# Altium schematic symbol library common.SchLib: 23 symbols
Pins are listed as number, name and electrical type; pins without a type are passive.

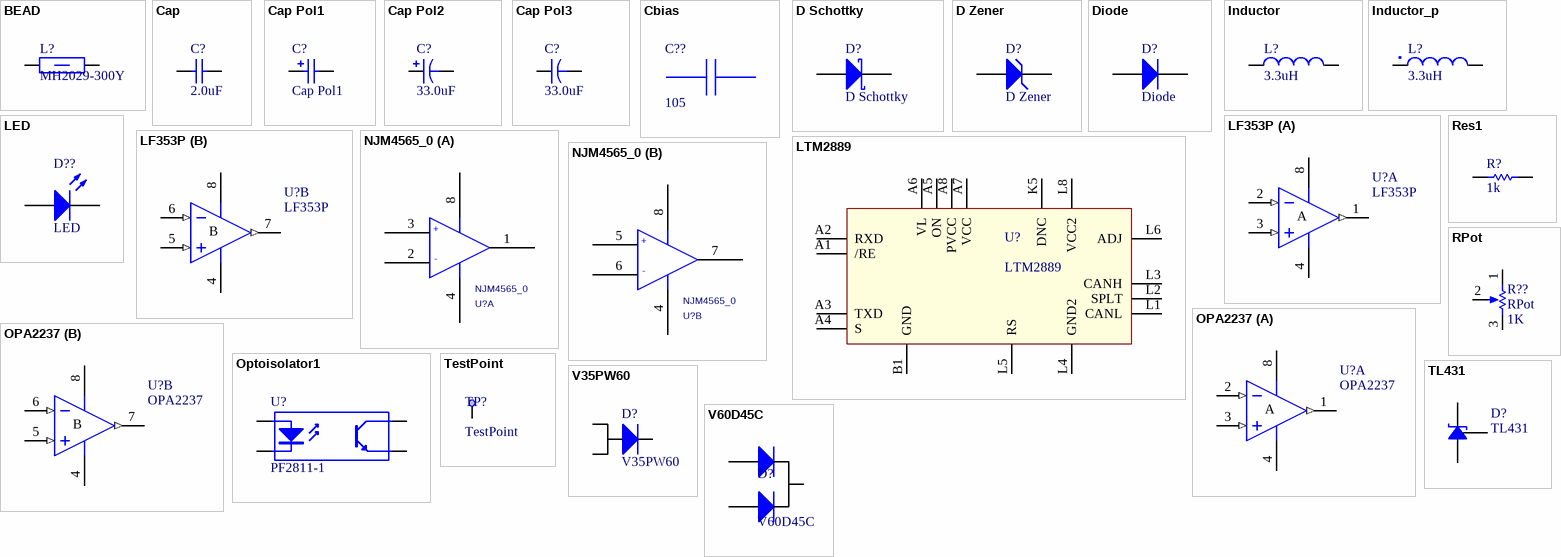
[diagram p0: symbols BEAD to V60D45C]

## BEAD
designator L?, comment MH2029-300Y
Inductor; Manufacturer: Bourns; Par Number: MH2029-300Y
footprint IND2012X05N (Chip Inductor, 2-Leads, Body 2.00x1.20mm, IPC Medium Density)
footprint SF-2923UC (SF-2923UC 5.8x7.3mm Fuse)
pins: 1, 2

## Cap
designator C?, comment 2.0uF
Capacitor; Value: 100pF; Published: 8-Jun-2000; LatestRevisionDate: 17-Jul-2002; LatestRevisionNote: Re-released for DXP Platform.; PackageReference: RAD-0.3; Publisher: Altium Limited; PackageDescription: Radial Cap, Thru-Hole; 2 Leads; 0.3 in Pin Spacing; Part Number: *; Manufacturer: *
footprint RAD-0.3 (Radial Cap, Thru-Hole; 2 Leads; 0.3 in Pin Spacing)
simulation model CAP (Capacitor)
signal-integrity model Cap
footprint CAPC1608X05N (Chip Capacitor, 2-Leads, Body 1.60x0.75mm, IPC Medium Density)
footprint CAPC2012X05N (Chip Capacitor, 2-Leads, Body 2.00x1.20mm, IPC Medium Density)
footprint LDEIH4100KA5N00 (EIA6054-13.7x15.5mmm)
pins: 1, 2

## Cap Pol1
designator C?
Polarized Capacitor (Radial); Value: 100pF; Published: 8-Jun-2000; LatestRevisionDate: 17-Jul-2002; LatestRevisionNote: Re-released for DXP Platform.; PackageReference: RB7.6-15; Publisher: Altium Limited; PackageDescription: Polarized Capacitor (Radial); 2 Leads; Part Number: *; Manufacturer: *
simulation model CAP (Capacitor)
signal-integrity model Cap Pol
footprint CAPMP3216X18N (Molded Capacitor, 2-Leads, Body 3.20x1.60mm, IPC Medium Density)
footprint CAPMP3528X18N (Molded Capacitor, 2-Leads, Body 3.50x2.80mm, IPC Medium Density)
footprint CAPMP6032X25N (Molded Capacitor, 2-Leads, Body 6.00x3.20mm, IPC Medium Density)
pins: 1, 2
1 alternate drawing of the same symbol

## Cap Pol2
designator C?, comment 33.0uF
Polarized Capacitor (Axial); Value: 100pF; Published: 8-Jun-2000; LatestRevisionDate: 17-Jul-2002; LatestRevisionNote: Re-released for DXP Platform.; PackageReference: POLAR0.8; Publisher: Altium Limited; PackageDescription: Polarized Capacitor; 2 Leads; Part Number: *; Manufacturer: *
simulation model CAP (Capacitor)
signal-integrity model Cap Pol
footprint CAPAE9083X100M (Aluminum Electrolytic Capacitor, Body 8.30x8.30x10.00mm, IPC Low Density)
pins: 1, 2
1 alternate drawing of the same symbol

## Cap Pol3
designator C?, comment 33.0uF
Polarized Capacitor (Axial); Value: 100pF; Published: 8-Jun-2000; LatestRevisionDate: 17-Jul-2002; LatestRevisionNote: Re-released for DXP Platform.; PackageReference: POLAR0.8; Publisher: Altium Limited; PackageDescription: Polarized Capacitor; 2 Leads; Part Number: *; Manufacturer: *
simulation model CAP (Capacitor)
signal-integrity model Cap Pol
footprint CAPAE9083X100M (Aluminum Electrolytic Capacitor, Body 8.30x8.30x10.00mm, IPC Low Density)
pins: 1, 2
1 alternate drawing of the same symbol

## Cbias
designator C??, comment 105
LMK212B7105KG-T; Manufacturer Name: Taiyo Yuden; Value: 1uF; PackageReference: LMK212B7105KG-T; Manufacturer Part Number: LMK212B7105KG-T
pins: 1, 2

## D Schottky
designator D?
Schottky Diode; Published: 8-Jun-2000; LatestRevisionDate: 17-Jul-2002; LatestRevisionNote: Re-released for DXP Platform.; PackageReference: SMB; Publisher: Altium Limited; PackageDescription: DO-214-AA/SMB; 2 C-Bend Leads; Body 5.3 x 3.6 mm, inc. leads (LxW); Code_JEDEC: DO-214-AA; Manufacturer: *; Part Number: *
simulation model SKYDIODE (Diode)
signal-integrity model D Schottky
footprint DO-214AC(SMA) (Molded Diode, 2-Leads, Body 4.60x2.70mm, IPC Medium Density)
pins: 1 A, 2 K

## D Zener
designator D?
Zener Diode; Published: 8-Jun-2000; LatestRevisionDate: 17-Jul-2002; LatestRevisionNote: Re-released for DXP Platform.; PackageReference: DIODE-0.7; Publisher: Altium Limited; PackageDescription: Diode, Thru-Hole; 2 Leads; 0.7 in Pin Spacing; Manufacturer: *; Part Number: *
footprint SOD_123-371X110-2N (SODFL, 2-Leads, Body 1.60x3.71mm, IPC Medium Density)
pins: 1 A, 2 K

## Diode
designator D?
Default Diode; Published: 8-Jun-2000; LatestRevisionDate: 17-Jul-2002; LatestRevisionNote: Re-released for DXP Platform.; PackageVersion: Sep-1996; PackageReference: SMC; Publisher: Altium Limited; PackageDescription: DO-214-AB/SMC; 2 C-Bend Leads; Body 7.9 x 5.9 mm, inc. leads (LxW); Code_JEDEC: DO-214-AB; Manufacturer: *; Part Number: *
footprint SMC (DO-214-AB/SMC; 2 C-Bend Leads; Body 7.9 x 5.9 mm, inc. leads (LxW))
simulation model DIODE (Diode)
signal-integrity model Diode
pins: 1 A, 2 K

## Inductor
designator L?, comment 3.3uH
Inductor; Code_IEC: 1005; Value: 10mH; Published: 8-Jun-2000; LatestRevisionDate: 29-May-2009; LatestRevisionNote: IPC-7351 Footprint Added.; PackageReference: 0402-A; Publisher: Altium Limited; PackageDescription: Chip Inductor; Code_JEITA: 0402; Manufacturer: *; Part Number: *
simulation model INDUCTOR (Inductor)
signal-integrity model Inductor
footprint SDR1307
pins: 1, 2

## Inductor_p
designator L?, comment 3.3uH
Inductor; Code_IEC: 1005; Value: 10mH; Published: 8-Jun-2000; LatestRevisionDate: 29-May-2009; LatestRevisionNote: IPC-7351 Footprint Added.; PackageReference: 0402-A; Publisher: Altium Limited; PackageDescription: Chip Inductor; Code_JEITA: 0402; Manufacturer: *; Part Number: *
simulation model INDUCTOR (Inductor)
signal-integrity model Inductor
footprint SDR1307
pins: 1, 2

## LED
designator D??
Typical INFRARED GaAs LED; Published: 8-Jun-2000; LatestRevisionDate: 08-Jul-2005; LatestRevisionNote: Mech Layer 1 removed.; PackageReference: LED-0; Publisher: Altium Limited; PackageDescription: LED; 2 Leads; Manufacturer: *; Part Number: *
footprint LED-1608(Green)
simulation model LED0 (Diode)
footprint LED-1608(red)
footprint LED 2012(GREEN) (LED, 2-Leads, Body 2.00x1.20mm, IPC Medium Density)
footprint LED 2012(RED) (LED, 2-Leads, Body 2.00x1.20mm, IPC Medium Density)
footprint LED 2012(BLUE) (LED, 2-Leads, Body 2.00x1.20mm, IPC Medium Density)
pins: 1 A, 2 K

## LF353P
designator U?
Dual Operational Amplifier; Published: 16-Jan-2001; LatestRevisionDate: 04-Mar-2005; LatestRevisionNote: Stylized 3D Model Added.; DatasheetVersion: Aug-1994; PackageVersion: Jun-1999; PackageReference: P008; Publisher: Altium Limited; PackageDescription: DIP; 8 Leads; Row Spacing 7.62 mm; Pitch 2.54 mm; Code_JEDEC: MO-001-AN; ComponentLink1Description: Manufacturer Link; ComponentLink1URL: http://www.ti.com/; ComponentLink2Description: Datasheet; ComponentLink2URL: http://www-s.ti.com/sc/ds/lf353.pdf
footprint MSOP8 (MSOP, 8-Leads, Body 3.00x3.00mm, Pitch 0.65mm, IPC Medium Density)
pins on every part: 4 V- (power), 8 V+ (power)
part A pins: 1 OUT (out), 2 IN- (in), 3 IN+ (in)
part B pins: 5 IN+ (in), 6 IN- (in), 7 OUT (out)
part A text: A
part B text: B

## LTM2889
designator U?
Manufacturer: Analog Devices; PartNumber: LTM2889CY-3
footprint LTM2889 (1.27mm*1.27mm)
pins: A1 /RE, A2 RXD, A3 TXD, A4 S, A5 ON, A6 VL, A7 VCC, A8 PVCC, B1 GND, K5 DNC, L1 CANL, L2 SPLT, L3 CANH, L4 GND2, L5 RS, L6 ADJ, L8 VCC2

## NJM4565_0
designator U?
OriginalSymbolOrigin: (0,0)
footprint MSOP-8
part A pins: 1 OUT, 2 -IN, 3 +IN, 4 V- (power), 8 V+ (power)
part B pins: 4 V- (power), 5 +IN, 6 -IN, 7 OUT, 8 V+ (power)
part A text: +; -
part B text: +; -

## OPA2237
designator U?
Dual Operational Amplifier; Published: 16-Jan-2001; LatestRevisionDate: 04-Mar-2005; LatestRevisionNote: Stylized 3D Model Added.; DatasheetVersion: Aug-1994; PackageVersion: Jun-1999; PackageReference: P008; Publisher: Altium Limited; PackageDescription: DIP; 8 Leads; Row Spacing 7.62 mm; Pitch 2.54 mm; Code_JEDEC: MO-001-AN; ComponentLink1Description: Manufacturer Link; ComponentLink1URL: http://www.ti.com/; ComponentLink2Description: Datasheet; ComponentLink2URL: http://www-s.ti.com/sc/ds/lf353.pdf
footprint MSOP8 (MSOP, 8-Leads, Body 3.00x3.00mm, Pitch 0.65mm, IPC Medium Density)
pins on every part: 4 V- (power), 8 V+ (power)
part A pins: 1 OUT (out), 2 IN- (in), 3 IN+ (in)
part B pins: 5 IN+ (in), 6 IN- (in), 7 OUT (out)
part A text: A
part B text: B

## Optoisolator1
designator U?, comment PF2811-1
4-Pin Phototransistor Optocoupler; Manufacturer: RENESAA; Part Number: PS2811-1; Published: 24-Mar-1999; LatestRevisionDate: 04-Mar-2005; LatestRevisionNote: Sch pins 3 & 4 Swapped.; DatasheetVersion: Nov-2003; PackageReference: DIP-4; Publisher: Altium Limited
footprint DIP-4 (DIP; 4 Leads; Row Spacing 7.62 mm; Pitch 2.54 mm)
pins: 1 A "Anode", 2 K "Cathode", 3 E "Emitter", 4 C "Collector"

## Res1
designator R?, comment 1k
Resistor; Published: 8-Jun-2000; LatestRevisionDate: 17-Jul-2002; LatestRevisionNote: Re-released for DXP Platform.; PackageReference: AXIAL-0.3; Publisher: Altium Limited; PackageDescription: Axial Device, Thru-Hole; 2 Leads; 0.3 in Pin Spacing; Value: 1k; Manufacturer: *; Part Number: *
footprint AXIAL-0.3 (Axial Device, Thru-Hole; 2 Leads; 0.3 in Pin Spacing)
simulation model RESISTOR (Resistor)
signal-integrity model Res
footprint RESC1608X05N (Chip Resistor, 2-Leads, Body 1.60x0.75mm, IPC Medium Density)
footprint RESC2012X05N (Chip Resistor, 2-Leads, Body 2.00x1.20mm, IPC Medium Density)
footprint RESC3216X05N (Chip Resistor, 2-Leads, Body 3.20x1.60mm, IPC Medium Density)
pins: 1, 2

## RPot
designator R??  value 1K
Potentiometer; Sim Note: Enter the Resistance value and the set point into parameter fields.; Set Position: 0.5; Published: 8-Jun-2000; LatestRevisionDate: 17-Jul-2002; LatestRevisionNote: Re-released for DXP Platform.; PackageReference: VR5; Publisher: Altium Limited; PackageDescription: Variable Resistor, Thru-Hole; 3 Leads
pins: 1 TOP, 2 TAP, 3 BOT
1 alternate drawing of the same symbol

## TestPoint
designator TP?
pins: 1 TP

## TL431
designator D?
Shunt regulator
footprint SOT95P245X110-3N (SOT23, 3-Leads, Body 2.90x2.45mm, Pitch 0.95mm, IPC Medium Density)
pins: 1 Cathode, 2 Ref, 3 Anode

## V35PW60
designator D?
Default Diode; Published: 8-Jun-2000; LatestRevisionDate: 17-Jul-2002; LatestRevisionNote: Re-released for DXP Platform.; PackageVersion: Sep-1996; PackageReference: SMC; Publisher: Altium Limited; PackageDescription: DO-214-AB/SMC; 2 C-Bend Leads; Body 7.9 x 5.9 mm, inc. leads (LxW); Code_JEDEC: DO-214-AB
footprint TO-252AE(SlimDPAK)
simulation model DIODE (Diode)
signal-integrity model Diode
pins: 1 A, 2 A, 3 K

## V60D45C
designator D?
Dual Low-Voltage Trench MOS Barrier Schottky Rectifier; Manufacturer: VISHAY; Published: 8-Jun-2000; LatestRevisionDate: 17-Jul-2002; LatestRevisionNote: Re-released for DXP Platform.; PackageVersion: Sep-1996; PackageReference: SMC; Publisher: Altium Limited; PackageDescription: DO-214-AB/SMC; 2 C-Bend Leads; Body 7.9 x 5.9 mm, inc. leads (LxW); Code_JEDEC: DO-214-AB; ModleNumber: V60D45C
simulation model DIODE (Diode)
signal-integrity model Diode
footprint TO-263AC (SMPD)
pins: 1 A, 2 A, 3 K